# Altium footprint library RJ45-8N-B.PcbLib: 1 footprints
Each footprint in its own frame and in the unit in brackets; x right, y up, seen from the top. Pads: shape width x height; smd on the part's side, far side on the other; paste and mask are expansions set on the pad; w line width, h text height; cw(c..) or ccw(c..) is an arc to the next point about the centre after c.
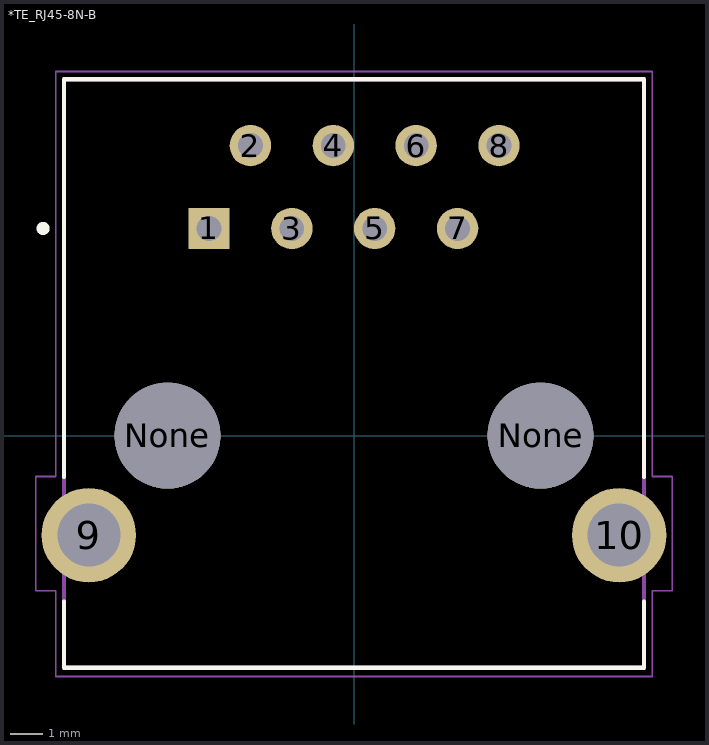
[diagram p0: the footprint, top view; thin cyan lines are the x and y axes]

## *TE_RJ45-8N-B [mm]
pads (12):
  rect 1.268x1.268 hole 0.76: 1(-4.445,6.35)
  round 1.268 hole 0.76: 2(-3.175,8.89) 3(-1.905,6.35) 4(-0.635,8.89) 5(0.635,6.35) 6(1.905,8.89) 7(3.175,6.35) 8(4.445,8.89)
  round 2.895 hole 1.93: 9(-8.125,-3.05) 10(8.125,-3.05)
  round 3.25 hole 3.25 unplated: None(-5.715,0) None(5.715,0)
Top Overlay:
  circle w0.2: c-9.53,6.35 r0.1
  lines w0.127: -8.89,-5.08 -8.89,-7.11 8.89,-7.11 8.89,-5.08 ; -8.89,-1.27 -8.89,10.92 8.89,10.92 8.89,-1.27
Mechanical 13:
  circle w0.2: c-4.445,6.35 r0.1
  circle w0.2: c-4.445,6.35 r0.1
  lines w0.127: -8.89,-7.11 8.89,-7.11 ; -8.89,-7.11 -8.89,10.92 ; -8.89,-7.11 8.89,-7.11 ; -8.89,-7.11 -8.89,10.92 ; -8.89,10.92 8.89,10.92 ; -8.89,10.92 8.89,10.92 ; 8.89,-7.11 8.89,10.92 ; 8.89,-7.11 8.89,10.92
Mechanical 15:
  lines w0.05: -9.75,-4.75 -9.75,-1.25 -9.14,-1.25 -9.14,11.16 9.14,11.16 9.14,-1.25 9.75,-1.25 9.75,-4.75 9.14,-4.75 9.14,-7.38 -9.14,-7.38 -9.14,-4.75 -9.75,-4.75